# EAGLE library part MC05/06 (library con-phoenix-250)
COMBICON MC - 1881480
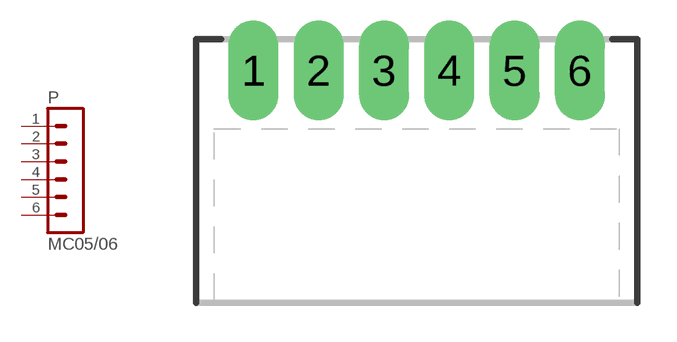
[diagram p0: symbol with the pads of MC05/06; footprint MC05/06]

Designator prefix P

## MC05/06  [MC05/06]
1  1  pas
2  2  pas
3  3  pas
4  4  pas
5  5  pas
6  6  pas

## Footprint MC05/06 (pad centres in mm)
HEADER
drill 1.27 long: 1 -6.25,0; 2 -3.75,0; 3 -1.25,0; 4 1.25,0; 5 3.75,0; 6 6.25,0